# EAGLE library part TA222-2 (library pswitch40)
E-Switch TA-222 pushbutton switch
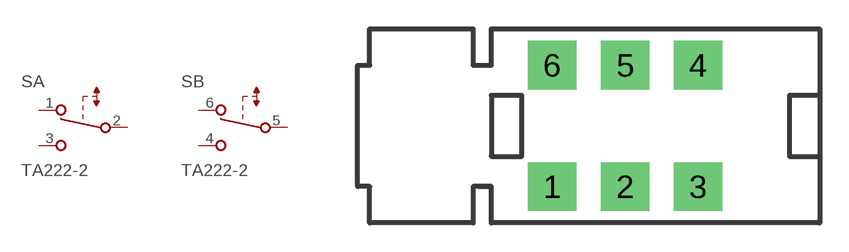
[diagram p1: symbol with the pads of TA222; footprint TA222]

Designator prefix S; gates A=SPDT B=SPDT

## TA222-2  [TA222]
1  A:1  pas
2  A:2  pas
3  A:3  pas
4  B:3  pas
5  B:2  pas
6  B:1  pas

## Footprint TA222 (pad centres in mm)
E-Switch TA222 Series Pushbutton
drill 1.27 pad 2.54 square: 1 -3.81,-3.175; 2 0,-3.175; 3 3.81,-3.175; 4 3.81,3.175; 5 0,3.175; 6 -3.81,3.175